# EAGLE library part 74990112116A (library my-WurthElektronik)
LAN-Transformer WE-RJ45LAN 10/100BaseT
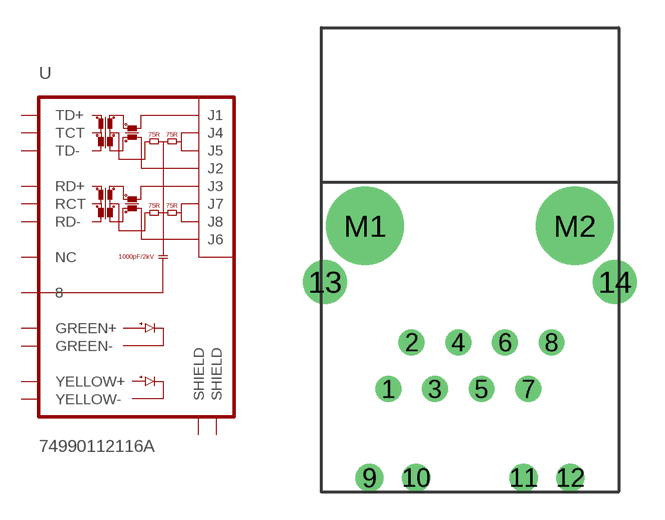
[diagram p1: symbol with the pads of RJ45-74990112116A; footprint RJ45-74990112116A]

Designator prefix -

## 74990112116A  [RJ45-74990112116A]
1  TD+
2  TD-
3  RD+
4  TCT
5  RCT
6  RD-
7  NC
8  8
9  YELLOW-
10  YELLOW+
11  GREEN-
12  GREEN+
13  SHIELD
14  SHIELD

## Footprint RJ45-74990112116A (pad centres in mm)
drill 0.9: 1 -4.445,-8.89; 2 -3.175,-6.35; 3 -1.905,-8.89; 4 -0.635,-6.35; 5 0.635,-8.89; 6 1.905,-6.35; 7 3.175,-8.89; 8 4.445,-6.35
drill 1.02: 9 -5.465,-13.72; 10 -2.925,-13.72; 11 2.925,-13.72; 12 5.465,-13.72
drill 1.6: 13 -7.9,-3.05; 14 7.9,-3.05
drill 3.25: M1 -5.715,0; M2 5.715,0